# Altium schematic symbol library MAX1745.SchLib: 1 symbol
Pins are listed as number, name and electrical type; pins without a type are passive.

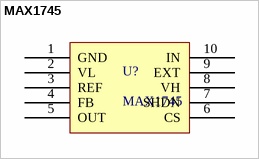
[diagram p0: symbol MAX1745]

## MAX1745
designator U?
pins: 1 GND, 2 VL, 3 REF, 4 FB, 5 OUT, 6 CS, 7 SHDN, 8 VH, 9 EXT, 10 IN